# Altium schematic symbol library Switch_1.Schlib: 1 symbol
Pins are listed as number, name and electrical type; pins without a type are passive.

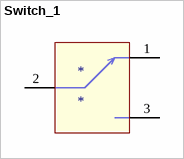
[diagram p0: symbol Switch_1]

## Switch_1
designator *
pins: 1, 2 0, 3 2